# Altium schematic symbol library SCH - PAD WITH HOLE - 2.5X3.5MM.SchLib: 1 symbol
Pins are listed as number, name and electrical type; pins without a type are passive.

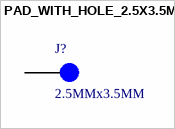
[diagram p0: symbol PAD_WITH_HOLE_2.5X3.5MM]

## PAD_WITH_HOLE_2.5X3.5MM
designator J?, comment 2.5MMx3.5MM  (no BOM)
High: 3mm Length: 3.5mm
footprint PAD_WITH_HOLE_2.5X3.5MM
pins: 1